# EAGLE library part MC100EPT20DG (library On Semiconductor)
3.3V LVTTL/LVCMOS to Differential LVPECL Translator
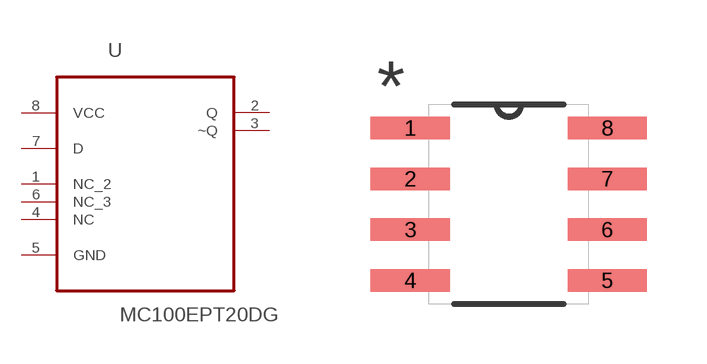
[diagram p129: symbol with the pads of SOIC127P600X175-8N; footprint SOIC127P600X175-8N]

Designator prefix U

## MC100EPT20DG (MPN: MC100EPT20DG; OC_FARNELL: 1607865; OC_NEWARK: 45J0921; PACKAGE: SOIC-8; SUPPLIER: Onsemiconductor)  [SOIC127P600X175-8N]
1  NC_2  nc
2  Q  out
3  ~Q  out
4  NC  nc
5  GND  pas
6  NC_3  nc
7  D  in
8  VCC  pwr

## Footprint SOIC127P600X175-8N (pad centres in mm)
smd 1.981 x 0.559: 1 -2.464,1.905; 2 -2.464,0.635; 3 -2.464,-0.635; 4 -2.464,-1.905; 5 2.464,-1.905; 6 2.464,-0.635; 7 2.464,0.635; 8 2.464,1.905